# Altium schematic symbol library TPS92381.Schlib: 1 symbol
Pins are listed as number, name and electrical type; pins without a type are passive.

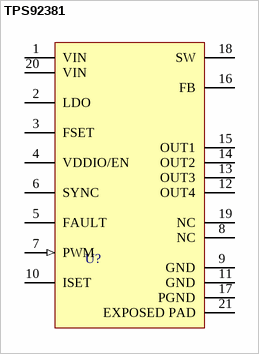
[diagram p0: symbol TPS92381]

## TPS92381
designator U?
480mA 45V LED backlight driver
pins: 1 VIN (power), 2 LDO (power), 3 FSET, 4 VDDIO/EN, 5 FAULT (oc), 6 SYNC, 7 PWM (in), 8 NC, 9 GND (power), 10 ISET, 11 GND (power), 12 OUT4 (power), 13 OUT3 (power), 14 OUT2 (power), 15 OUT1 (power), 16 FB, 17 PGND (power), 18 SW (power), 19 NC, 20 VIN (power), 21 EXPOSED PAD